# Altium footprint library C0805X104K5RAC3316.PcbLib: 3 footprints
Each footprint in its own frame and in the unit in brackets; x right, y up, seen from the top. Pads: shape width x height; smd on the part's side, far side on the other; paste and mask are expansions set on the pad; w line width, h text height; cw(c..) or ccw(c..) is an arc to the next point about the centre after c.
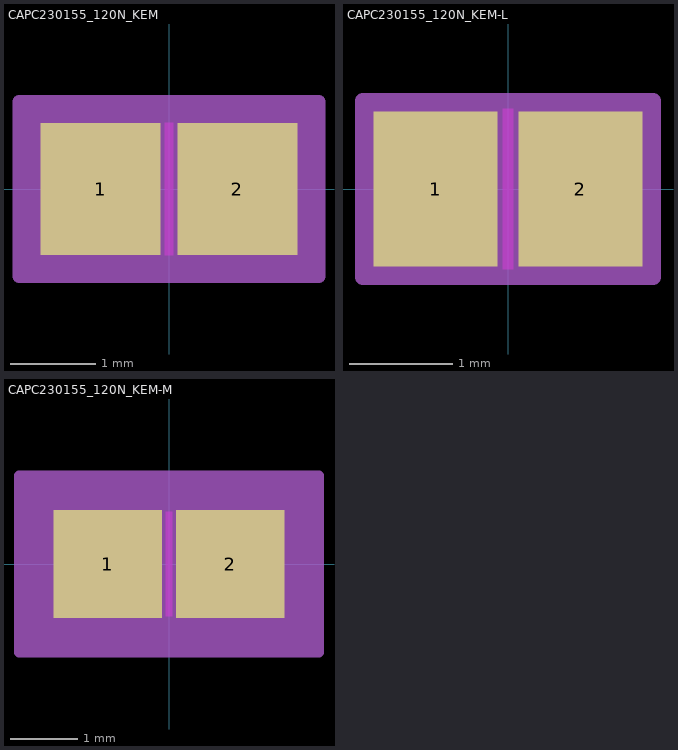
[diagram p0: the footprints below, top view; thin cyan lines are the x and y axes]

## CAPC230155_120N_KEM [mm]
pads (2):
  rect 1.406x1.55 smd paste+0 mask+0: 1(-0.803,0) 2(0.803,0)
Top Layer keep-out:
  region: -0.049,-0.724 -0.049,0.724 0.049,0.724 0.049,-0.724
Keep-Out Layer:
  region: -0.049,-0.775 -0.049,0.775 0.049,0.775 0.049,-0.775
Mechanical 13:
  lines w0.025: -1.15,-0.775 -1.15,0.775 ; -1.15,-0.775 -0.4,-0.775 -0.4,0.775 -1.15,0.775 ; -1.15,-0.775 1.15,-0.775 ; -1.15,-0.775 -1.15,0.775 ; -1.15,0.775 1.15,0.775 ; 1.15,-0.775 0.4,-0.775 0.4,0.775 1.15,0.775 ; 1.15,-0.775 1.15,0.775 ; 1.15,-0.775 1.15,0.775
Mechanical 15:
  region: 1.76,-1.029 -1.76,-1.029 -1.76,1.029 1.76,1.029
  lines w0.152: -1.76,-1.029 -1.76,1.029 1.76,1.029 1.76,-1.029 -1.76,-1.029
3D body "CAPC230155_120N_KEM.step": height 1.2, standoff 0, extent -1.15,-0.775 1.15,0.775

## CAPC230155_120N_KEM-L [mm]
pads (2):
  rect 1.202x1.499 smd paste+0 mask+0: 1(-0.701,0) 2(0.701,0)
Top Layer keep-out:
  region: -0.049,-0.724 -0.049,0.724 0.049,0.724 0.049,-0.724
Keep-Out Layer:
  region: -0.049,-0.775 -0.049,0.775 0.049,0.775 0.049,-0.775
Mechanical 13:
  lines w0.025: -1.15,-0.775 -1.15,0.775 ; -1.15,-0.775 -0.4,-0.775 -0.4,0.775 -1.15,0.775 ; -1.15,-0.775 1.15,-0.775 ; -1.15,-0.775 -1.15,0.775 ; -1.15,0.775 1.15,0.775 ; 1.15,-0.775 0.4,-0.775 0.4,0.775 1.15,0.775 ; 1.15,-0.775 1.15,0.775 ; 1.15,-0.775 1.15,0.775
Mechanical 15:
  region: 1.404,-0.851 -1.404,-0.851 -1.404,0.851 1.404,0.851
  lines w0.152: -1.404,-0.851 -1.404,0.851 1.404,0.851 1.404,-0.851 -1.404,-0.851
3D body "CAPC230155_120N_KEM.step": height 1.2, standoff 0, extent -1.15,-0.775 1.15,0.775

## CAPC230155_120N_KEM-M [mm]
pads (2):
  rect 1.609x1.601 smd paste+0 mask+0: 1(-0.904,0) 2(0.904,0)
Top Layer keep-out:
  region: -0.049,-0.724 -0.049,0.724 0.049,0.724 0.049,-0.724
Keep-Out Layer:
  region: -0.049,-0.775 -0.049,0.775 0.049,0.775 0.049,-0.775
Mechanical 13:
  lines w0.025: -1.15,-0.775 -1.15,0.775 ; -1.15,-0.775 -0.4,-0.775 -0.4,0.775 -1.15,0.775 ; -1.15,-0.775 1.15,-0.775 ; -1.15,-0.775 -1.15,0.775 ; -1.15,0.775 1.15,0.775 ; 1.15,-0.775 0.4,-0.775 0.4,0.775 1.15,0.775 ; 1.15,-0.775 1.15,0.775 ; 1.15,-0.775 1.15,0.775
Mechanical 15:
  region: 2.217,-1.308 -2.217,-1.308 -2.217,1.308 2.217,1.308
  lines w0.152: -2.217,-1.308 -2.217,1.308 2.217,1.308 2.217,-1.308 -2.217,-1.308
3D body "CAPC230155_120N_KEM.step": height 1.2, standoff 0, extent -1.15,-0.775 1.15,0.775